# Altium footprint library PL04_22F.PcbLib: 63 footprints (part 1 of 4)
Each footprint in its own frame and in the unit in brackets; x right, y up, seen from the top. Pads: shape width x height; smd on the part's side, far side on the other; paste and mask are expansions set on the pad; w line width, h text height; cw(c..) or ccw(c..) is an arc to the next point about the centre after c.
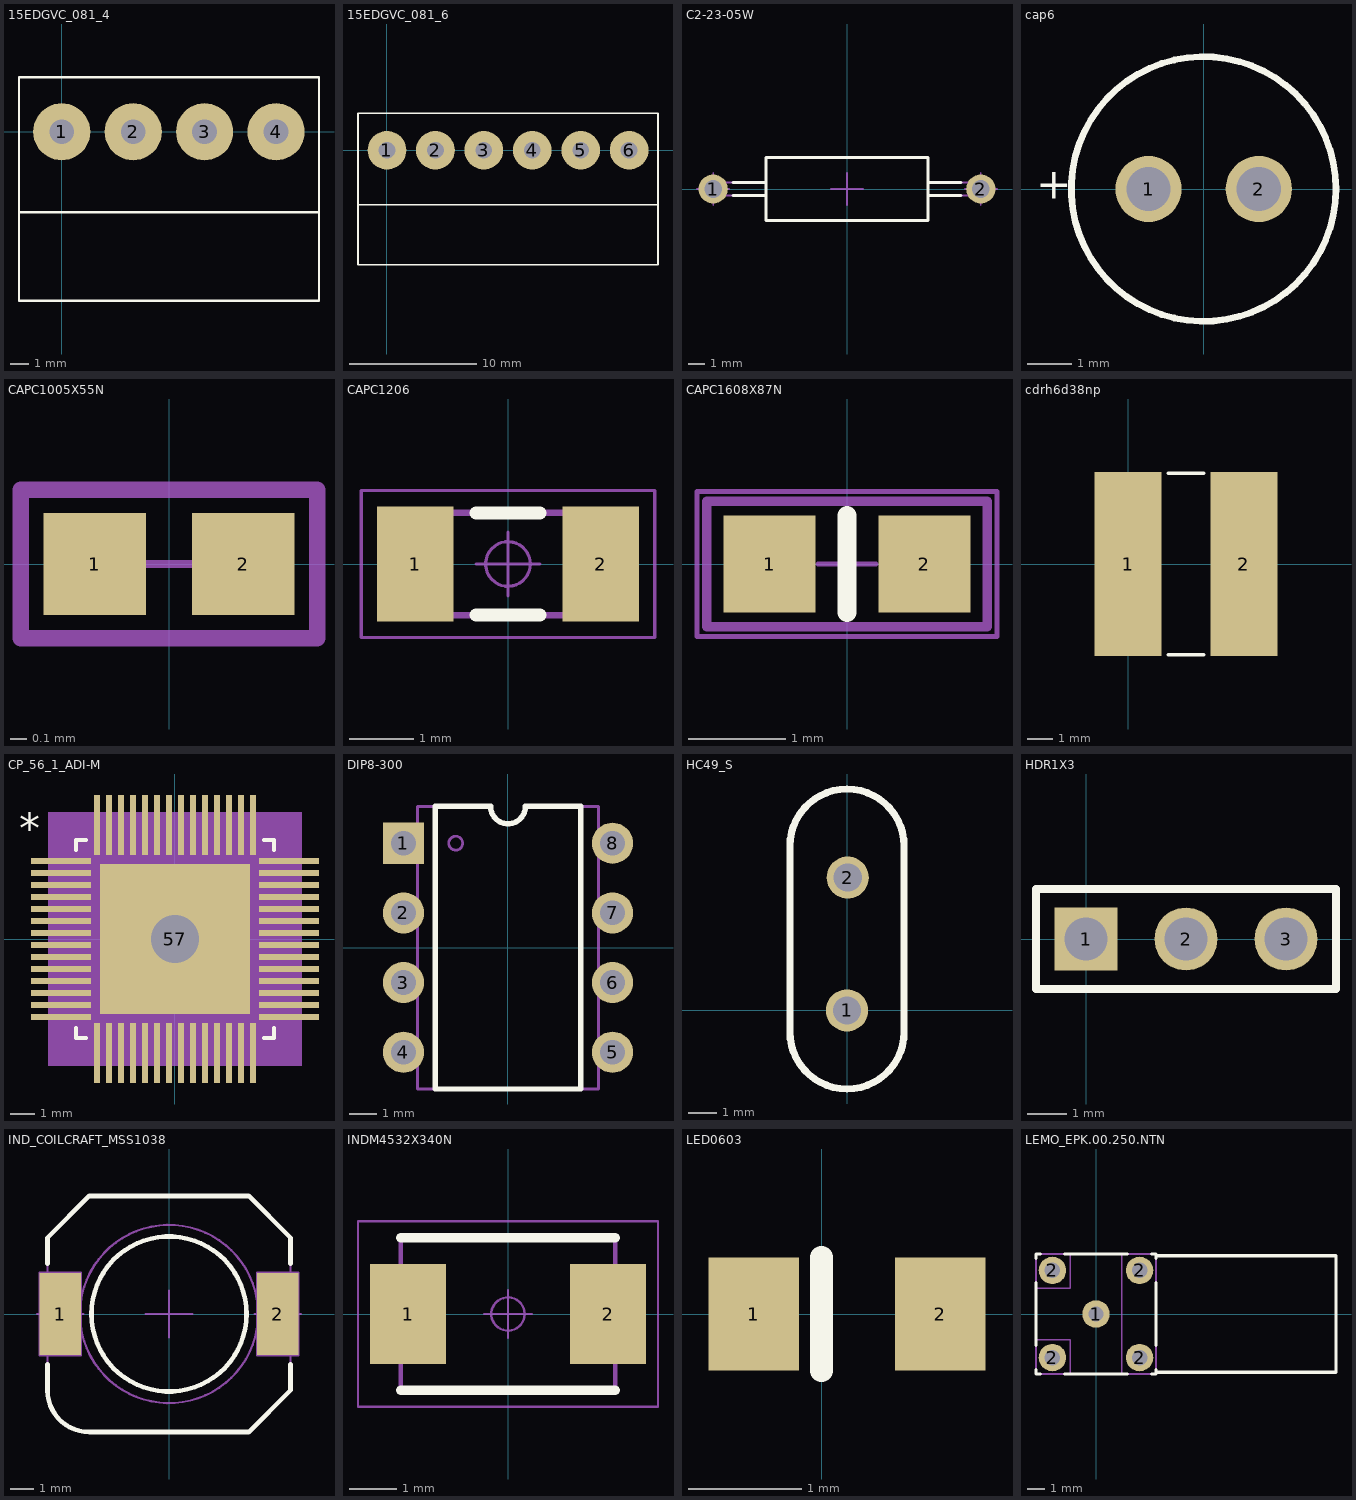
[diagram p0: the footprints below, top view; thin cyan lines are the x and y axes]

## 15EDGVC_081_4 [mil]
pads (4):
  round 120 hole 52: 1(0,0) 2(150,0) 3(300,0) 4(450,0)
Top Overlay:
  lines w5: -89.76,-169.29 540.16,-169.29 ; -89.76,-169.29 -89.76,114.17 -77.95,114.17 540.16,114.17 540.16,-169.29 ; -89.76,-169.29 -89.76,-354.33 540.16,-354.33 540.16,-169.29
3D body "PHOENIX_1803442.stp": height 362.2, standoff -133.86, extent -102.37,-167.33 552.36,118.1

## 15EDGVC_081_6 [mil]
pads (6):
  round 120 hole 52: 1(0,0) 2(150,0) 3(300,0) 4(450,0) 5(600,0) 6(750,0)
Top Overlay:
  lines w5: -89.76,-169.29 -89.76,-354.33 839.37,-354.33 839.37,-169.29 ; -89.76,-169.29 -89.76,114.17 -77.95,114.17 839.37,114.17 839.37,-169.29 ; -89.76,-169.29 839.37,-169.29
3D body "PHOENIX_1803442.stp": height 362.2, standoff -133.86, extent -102.37,-167.33 552.36,118.1
3D body "PHOENIX_1803442.stp": height 362.2, standoff -133.86, extent 197.63,-167.33 852.36,118.1

## C2-23-05W [mm] "Resistor, Axial, Pad spacing 16.51mm - Body Lengh 10mm X Body Diameter 3.9mm"
height 3.9
pads (2):
  round 1.8 hole 1.1: 1(-8.255,0) 2(8.255,0)
Top Overlay:
  lines w0.2: -7.018,-0.4 -5,-0.4 ; -7.018,0.4 -5,0.4 ; 5,-0.4 7.018,-0.4 ; 5,0.4 7.018,0.4 ; -5,-1.95 -5,1.95 ; -5,-1.95 5,-1.95 ; -5,-1.95 5,-1.95 ; -5,-1.95 -5,1.95 ; -5,1.95 5,1.95 ; -5,1.95 5,1.95 ; 5,-1.95 5,1.95 ; 5,-1.95 5,1.95
Mechanical 8:
  lines w0.1: -9.255,0 -8.255,0 ; -8.255,-1 -8.255,0 ; -8.255,1 -8.255,0 ; -7.255,0 -8.255,0 ; -1,0 0,0 ; 0,-1 0,0 ; 0,1 0,0 ; 1,0 0,0 ; 7.255,0 8.255,0 ; 8.255,-1 8.255,0 ; 8.255,1 8.255,0 ; 9.255,0 8.255,0
Mechanical 14:
  lines w0.1: -5,-0.4 -8.255,-0.4 cw(c-8.255,0) -8.255,0.4 -5,0.4 ; 5,-0.4 8.255,-0.4 ccw(c8.255,0) 8.255,0.4 5,0.4 ; -5,-1.95 5,-1.95 5,1.95 -5,1.95 -5,-1.95
3D body "RES1651-1000X390.stp": height 3.9, standoff -3.8, extent -8.645,-1.95 8.645,1.95

## cap6 [mm] "Capacitor, Radial, Pin spacing 2.5mm - Body Diameter 5.0mm X Body Height 11mm"
height 11
pads (2):
  round 1.5 hole 1 mask+0.1: 1(-1.25,0) 2(1.25,0)
Top Overlay:
  circle w0.15: c0,0 r3
  text "+" at -3.8,-0.225 h0.7
3D body "CAPPR250-500X1100.stp": height 10.9, standoff -3.6, extent -2.512,-2.512 2.488,2.488

## CAPC1005X55N [mm] "Chip Capacitor, Body 1.0x0.55mm, IPC Medium Density"
height 0.55
pads (2):
  rect 0.62x0.62 smd: 1(-0.45,0) 2(0.45,0)
Mechanical 14:
  lines w0.1: -0.9,-0.45 -0.9,0.45 0.9,0.45 0.9,-0.45 -0.9,-0.45
Mechanical 15:
  lines w0.05: -0.5,0 0.5,0 ; -0.91,-0.46 -0.91,0.46 0.91,0.46 0.91,-0.46 -0.91,-0.46
3D body "CAPC1005X55N.stp": height 0.55, standoff 0, extent -0.525,-0.275 0.525,0.275

## CAPC1206 [mm] "Chip Capacitor, Body 3.2x1.6mm, IPC Medium Density"
height 0.7
pads (2):
  rect 1.2x1.8 smd: 1(-1.45,0) 2(1.45,0)
Top Overlay:
  lines w0.2: -0.5,-0.8 0.5,-0.8 ; -0.5,0.8 0.5,0.8
Mechanical 14:
  lines w0.1: -1.6,-0.8 -1.6,0.8 1.6,0.8 1.6,-0.8 -1.6,-0.8
Mechanical 15:
  circle w0.05: c0,0 r0.35
  lines w0.05: -0.5,0 0.5,0 ; 0,-0.5 0,0.5 ; -2.3,-1.15 -2.3,1.15 2.3,1.15 2.3,-1.15 -2.3,-1.15
3D body "CAPC3216X70N.stp": height 0.7, standoff 0, extent -1.7,-0.9 1.7,0.9

## CAPC1608X87N [mm] "Chip Capacitor, Body 1.6x0.8mm IPC Medium Density"
height 0.87
pads (2):
  rect 0.95x1 smd: 1(-0.8,0) 2(0.8,0)
Top Overlay:
  lines w0.2: 0,-0.5 0,0.5
Mechanical 14:
  lines w0.1: -1.45,-0.65 -1.45,0.65 1.45,0.65 1.45,-0.65 -1.45,-0.65
Mechanical 15:
  lines w0.05: -0.3,0 0.3,0 ; 0,-0.3 0,0.3 ; -1.55,-0.75 1.55,-0.75 1.55,0.75 -1.55,0.75 -1.55,-0.75
3D body "CAPC1608X87N.stp": height 0.87, standoff 0, extent -0.875,-0.475 0.875,0.475

## cdrh6d38np [mm]
height 1.3
pads (2):
  rect 2.65x7.3 smd: 1(0,0) 2(4.6,0)
Top Overlay:
  lines w0.15: 1.6,-3.6 3,-3.6 ; 1.6,3.6 3,3.6
3D body "INDM_VISHAY_IHLP2525CZ.stp": height 3, standoff 0, extent -1.32,-3.36 5.92,3.36

## CP_56_1_ADI-M [mm] "LFCSP 56 0.5mm pitch 8x8x0.8mm body size"
pads (57):
  rect 2.508x0.255 smd paste+0 mask+0: 1(-4.747,3.25) 2(-4.747,2.75) 3(-4.747,2.25) 4(-4.747,1.75) 5(-4.747,1.25) 6(-4.747,0.75) 7(-4.747,0.25) 8(-4.747,-0.25) 9(-4.747,-0.75) 10(-4.747,-1.25) 11(-4.747,-1.75) 12(-4.747,-2.25) 13(-4.747,-2.75) 14(-4.747,-3.25) 29(4.747,-3.25) 30(4.747,-2.75) 31(4.747,-2.25) 32(4.747,-1.75) 33(4.747,-1.25) 34(4.747,-0.75) 35(4.747,-0.25) 36(4.747,0.25) 37(4.747,0.75) 38(4.747,1.25) 39(4.747,1.75) 40(4.747,2.25) 41(4.747,2.75) 42(4.747,3.25)
  rect 0.255x2.508 smd paste+0 mask+0: 15(-3.25,-4.747) 16(-2.75,-4.747) 17(-2.25,-4.747) 18(-1.75,-4.747) 19(-1.25,-4.747) 20(-0.75,-4.747) 21(-0.25,-4.747) 22(0.25,-4.747) 23(0.75,-4.747) 24(1.25,-4.747) 25(1.75,-4.747) 26(2.25,-4.747) 27(2.75,-4.747) 28(3.25,-4.747) 43(3.25,4.747) 44(2.75,4.747) 45(2.25,4.747) 46(1.75,4.747) 47(1.25,4.747) 48(0.75,4.747) 49(0.25,4.747) 50(-0.25,4.747) 51(-0.75,4.747) 52(-1.25,4.747) 53(-1.75,4.747) 54(-2.25,4.747) 55(-2.75,4.747) 56(-3.25,4.747)
  rect 6.248x6.248 hole 2 paste-3.111 mask+0: 57(0,0)
Top Overlay:
  lines w0.152: -4.127,-3.71 -4.127,-4.127 -3.71,-4.127 ; -4.127,3.71 -4.127,4.127 -3.71,4.127 ; 3.71,-4.127 4.127,-4.127 4.127,-3.71 ; 3.71,4.127 4.127,4.127 4.127,3.71
  text "*" at -6.5,4 h1.27
Top Paste:
  region: -1.662,3.024 -3.024,3.024 -3.024,1.662 -1.662,1.662
  region: -1.662,1.462 -3.024,1.462 -3.024,0.1 -1.662,0.1
  region: -1.662,-0.1 -3.024,-0.1 -3.024,-1.462 -1.662,-1.462
  region: -1.662,-1.662 -3.024,-1.662 -3.024,-3.024 -1.662,-3.024
  region: -0.1,3.024 -1.462,3.024 -1.462,1.662 -0.1,1.662
  region: -0.1,1.462 -1.462,1.462 -1.462,0.1 -0.1,0.1
  region: -0.1,-0.1 -1.462,-0.1 -1.462,-1.462 -0.1,-1.462
  region: -0.1,-1.662 -1.462,-1.662 -1.462,-3.024 -0.1,-3.024
  region: 1.462,3.024 0.1,3.024 0.1,1.662 1.462,1.662
  region: 1.462,1.462 0.1,1.462 0.1,0.1 1.462,0.1
  region: 1.462,-0.1 0.1,-0.1 0.1,-1.462 1.462,-1.462
  region: 1.462,-1.662 0.1,-1.662 0.1,-3.024 1.462,-3.024
  region: 3.024,3.024 1.662,3.024 1.662,1.662 3.024,1.662
  region: 3.024,1.462 1.662,1.462 1.662,0.1 3.024,0.1
  region: 3.024,-0.1 1.662,-0.1 1.662,-1.462 3.024,-1.462
  region: 3.024,-1.662 1.662,-1.662 1.662,-3.024 3.024,-3.024
Mechanical 5:
  region: 5.289,-5.289 -5.289,-5.289 -5.289,5.289 5.289,5.289
Mechanical 13:
  lines w0.025: -4,2.73 -2.73,4 ; -4,-4 4,-4 4,4 -4,4 -4,-4 ; -4,-3.402 -4,-3.098 -4,-3.402 ; -4,-2.902 -4,-2.598 -4,-2.902 ; -4,-2.402 -4,-2.098 -4,-2.402 ; -4,-1.902 -4,-1.598 -4,-1.902 ; -4,-1.402 -4,-1.098 -4,-1.402 ; -4,-0.902 -4,-0.598 -4,-0.902 ; -4,-0.402 -4,-0.098 -4,-0.402 ; -4,0.098 -4,0.402 -4,0.098 ; -4,0.598 -4,0.902 -4,0.598 ; -4,1.098 -4,1.402 -4,1.098 ; -4,1.598 -4,1.902 -4,1.598 ; -4,2.098 -4,2.402 -4,2.098 ; -4,2.598 -4,2.902 -4,2.598 ; -4,3.098 -4,3.402 -4,3.098 ; -3.402,-4 -3.098,-4 -3.402,-4 ; -3.402,4 -3.098,4 -3.402,4 ; -2.902,-4 -2.598,-4 -2.902,-4 ; -2.902,4 -2.598,4 -2.902,4 ; -2.402,-4 -2.098,-4 -2.402,-4 ; -2.402,4 -2.098,4 -2.402,4 ; -1.902,-4 -1.598,-4 -1.902,-4 ; -1.902,4 -1.598,4 -1.902,4 ; -1.402,-4 -1.098,-4 -1.402,-4 ; -1.402,4 -1.098,4 -1.402,4 ; -0.902,-4 -0.598,-4 -0.902,-4 ; -0.902,4 -0.598,4 -0.902,4 ; -0.402,-4 -0.098,-4 -0.402,-4 ; -0.402,4 -0.098,4 -0.402,4 ; 0.098,-4 0.402,-4 0.098,-4 ; 0.098,4 0.402,4 0.098,4 ; 0.598,-4 0.902,-4 0.598,-4 ; 0.598,4 0.902,4 0.598,4 ; 1.098,-4 1.402,-4 1.098,-4 ; 1.098,4 1.402,4 1.098,4 ; 1.598,-4 1.902,-4 1.598,-4 ; 1.598,4 1.902,4 1.598,4 ; 2.098,-4 2.402,-4 2.098,-4 ; 2.098,4 2.402,4 2.098,4 ; 2.598,-4 2.902,-4 2.598,-4 ; 2.598,4 2.902,4 2.598,4 ; 3.098,-4 3.402,-4 3.098,-4 ; 3.098,4 3.402,4 3.098,4 ; 4,-3.402 4,-3.098 4,-3.402 ; 4,-2.902 4,-2.598 4,-2.902 ; 4,-2.402 4,-2.098 4,-2.402 ; 4,-1.902 4,-1.598 4,-1.902 ; 4,-1.402 4,-1.098 4,-1.402 ; 4,-0.902 4,-0.598 4,-0.902 ; 4,-0.402 4,-0.098 4,-0.402 ; 4,0.098 4,0.402 4,0.098 ; 4,0.598 4,0.902 4,0.598 ; 4,1.098 4,1.402 4,1.098 ; 4,1.598 4,1.902 4,1.598 ; 4,2.098 4,2.402 4,2.098 ; 4,2.598 4,2.902 4,2.598 ; 4,3.098 4,3.402 4,3.098
  text "*" at -3.81,2.865 h1.27
Mechanical 15:
  region: -3.885,-4.508 -4.508,-4.508 -4.508,-3.885 -4.908,-3.885 -4.908,3.885 -4.508,3.885 -4.508,4.508 -3.885,4.508 -3.885,4.908 3.885,4.908 3.885,4.508 4.508,4.508 4.508,3.885 4.908,3.885 4.908,-3.885 4.508,-3.885 4.508,-4.508 3.885,-4.508 3.885,-4.908 -3.885,-4.908
  lines w0.152: -4.908,-3.885 -4.508,-3.885 -4.508,-4.508 -3.885,-4.508 -3.885,-4.908 3.885,-4.908 3.885,-4.508 4.508,-4.508 4.508,-3.885 4.908,-3.885 4.908,3.885 4.508,3.885 4.508,4.508 3.885,4.508 3.885,4.908 -3.885,4.908 -3.885,4.508 -4.508,4.508 -4.508,3.885 -4.908,3.885 -4.908,-3.885
3D body "CP_56_1_ADI.step": height 0.99, standoff 0, extent -4,-4 4,4

## DIP8-300 [mm] "DIP 8 Leads, Row Spacing 7.62 mm; Pitch 2.54 mm"
height 5.08
pads (8):
  rect 1.5x1.5 hole 0.9: 1(-3.81,3.81)
  round 1.5 hole 0.9: 2(-3.81,1.27) 3(-3.81,-1.27) 4(-3.81,-3.81) 5(3.81,-3.81) 6(3.81,-1.27) 7(3.81,1.27) 8(3.81,3.81)
Top Overlay:
  lines w0.2: -0.635,5.15 ccw(c0,5.15) 0.635,5.15 ; -0.635,5.15 ccw(c0,5.15) 0.635,5.15 ; -0.635,5.15 -2.65,5.15 -2.65,-5.15 2.65,-5.15 2.65,5.15 0.635,5.15
Mechanical 14:
  circle w0.1: c-1.905,3.81 r0.254
  lines w0.1: -3.3,-5.15 3.3,-5.15 3.3,5.15 0.635,5.15 cw(c0,5.15) -0.635,5.15 -3.3,5.15 -3.3,-5.15
3D body "DIP8-300.stp": height 5.33, standoff -3.3, extent -3.935,-5.08 3.935,5.08

## HC49_S [mm] "HC-49/U-S Leaded Cristal, Body 11.5x4.66mm; Pitch 4.88mm"
height 3.5
pads (2):
  round 1.5 hole 1: 1(0,0) 2(0.025,4.724)
Top Overlay:
  lines w0.254: -2.032,-0.762 ccw(c0,-0.762) 2.032,-0.762 2.032,5.842 ccw(c0,5.842) -2.032,5.842 -2.032,-0.762
3D body "XTAL_CITIZEN_HC-49-U-S.stp": height 3.5, standoff -3.6, extent -2.355,-3.45 2.305,8.05

## HDR1X3 [mm] "Connector; Header; 3 Position"
height 0.65
pads (3):
  rect 1.6x1.6 hole 1.1: 1(0,0)
  round 1.6 hole 1.1: 2(2.54,0) 3(5.08,0)
Top Overlay:
  lines w0.2: -1.27,-1.27 6.35,-1.27 6.35,1.27 -1.27,1.27 -1.27,-1.27
3D body "SAMTEC_MTLW-103-07-L-S-250.stp": height 7.87, standoff -3.05, extent -1.27,-1.269 6.35,1.22

## IND_COILCRAFT_MSS1038 [mm] "SMD Inductor  Body Width 10mm Body Lenght 10.2mm Height 4mm"
height 4
pads (2):
  rect 1.78x3.56 smd: 1(-4.7,0) 2(4.7,0)
Top Overlay:
  circle w0.2: c0,0 r3.35
  lines w0.2: -5.25,-2.18 -5.25,-3.3 ccw(c-3.45,-3.3) -3.45,-5.1 3.45,-5.1 5.25,-3.3 5.25,-2.18 ; -5.25,2.18 -5.25,3.3 -3.45,5.1 3.45,5.1 5.25,3.3 5.25,2.18
Mechanical 8:
  lines w0.1: -5.7,0 -4.7,0 ; -4.7,-1 -4.7,0 ; -4.7,1 -4.7,0 ; -3.7,0 -4.7,0 ; -1,0 0,0 ; 0,-1 0,0 ; 0,1 0,0 ; 1,0 0,0 ; 3.7,0 4.7,0 ; 4.7,-1 4.7,0 ; 4.7,1 4.7,0 ; 5.7,0 4.7,0 ; -5.59,-1.78 -5.59,1.78 -3.81,1.78 -3.81,-1.78 -5.59,-1.78 ; 3.81,-1.78 3.81,1.78 5.59,1.78 5.59,-1.78 3.81,-1.78
Mechanical 14:
  circle w0.1: c0,0 r3.35
  circle w0.1: c0,0 r3.85
  lines w0.1: -5.25,-1.6 -3.85,-1.6 -3.85,1.6 -5.25,1.6 ; -5.25,-1.6 -5.25,-3.3 ccw(c-3.45,-3.3) -3.45,-5.1 3.45,-5.1 5.25,-3.3 5.25,-1.6 ; -5.25,-1.6 -5.25,1.6 ; -5.25,1.6 -5.25,3.3 -3.45,5.1 3.45,5.1 5.25,3.3 5.25,1.6 ; 5.25,-1.6 3.85,-1.6 3.85,1.6 5.25,1.6 ; 5.25,-1.6 5.25,1.6
3D body "IND_COILCRAFT_MSS1038.stp": height 4, standoff 0, extent -5.25,-5.1 5.25,5.1

## INDM4532X340N [mm] "Inductor, Molded Body; 4.5mm L X 3.2mm W, IPC Medium Density"
height 3.4
pads (2):
  rect 1.6x2.1 smd: 1(-2.1,0) 2(2.1,0)
Top Overlay:
  lines w0.2: -2.25,-1.6 2.25,-1.6 ; -2.25,1.6 2.25,1.6
Mechanical 14:
  lines w0.1: -2.25,-1.6 2.25,-1.6 2.25,1.6 -2.25,1.6 -2.25,-1.6
Mechanical 15:
  circle w0.05: c0,0 r0.35
  lines w0.05: -0.5,0 0.5,0 ; 0,-0.5 0,0.5 ; -3.15,-1.95 3.15,-1.95 3.15,1.95 -3.15,1.95 -3.15,-1.95
3D body "INDM4532X340N.stp": height 3.4, standoff 0, extent -2.25,-1.6 2.25,1.6

## LED0603 [mm] "Chip LED 0603, Body 2.25x1mm"
height 0.85
pads (2):
  rect 0.8x1 smd: 1(-0.6,0) 2(1.05,0)
Top Overlay:
  lines w0.2: 0,-0.5 0,-0.25 0,0.25 0,0.5
Mechanical 14:
  lines w0.1: -0.65,-0.4 -0.65,0.4 ; 0.95,-0.4 0.95,0.4
3D body: height 0.25, standoff 0, extent -1,-0.425 -1,-0.425
3D body: height 0.25, standoff 0, extent -1.1,0.4 -1.1,0.4
3D body: height 0.25, standoff 0, extent -1.1,0.4 -1.1,0.4
3D body: height 0.25, standoff 0, extent -1.1,0.4 -1.1,0.4
3D body: height 0.25, standoff 0, extent -1.1,0.4 -1.1,0.4
3D body: height 0.1, standoff 0, extent -0.674,-0.475 -0.3,0.475
3D body: height 0.1, standoff 0, extent 0.85,-0.475 1.224,0.475
3D body: height 0.1, standoff 0, extent -0.3,-0.475 0.85,0.475
3D body: height 0.95, standoff 0.1, extent -0.487,-0.475 1.037,0.475

## LEMO_EPK.00.250.NTN [mm] "50 Ohm size 00 Coaxial Elbow (90°) socket"
height 7
pads (5):
  round 1.6 hole 0.9: 1(0,0) 2(-2.54,-2.54) 2(-2.54,2.54) 2(2.54,-2.54) 2(2.54,2.54)
Top Overlay:
  lines w0.2: -3.5,-3.26 -3.5,-3.5 -3.26,-3.5 ; -3.5,-1.82 -3.5,1.82 ; -3.5,3.26 -3.5,3.5 -3.26,3.5 ; -1.82,-3.5 1.82,-3.5 ; -1.82,3.5 1.82,3.5 ; 3.26,-3.5 3.5,-3.5 3.5,-3.26 ; 3.26,3.5 3.5,3.5 3.5,3.26 ; 3.5,-3.4 14,-3.4 14,3.4 3.5,3.4 ; 3.5,-1.82 3.5,1.82
Mechanical 8:
  lines w0.1: -3.04,-2.54 -2.54,-2.54 ; -3.04,2.54 -2.54,2.54 ; -2.54,-3.04 -2.54,-2.54 ; -2.54,-2.04 -2.54,-2.54 ; -2.54,2.04 -2.54,2.54 ; -2.54,3.04 -2.54,2.54 ; -2.04,-2.54 -2.54,-2.54 ; -2.04,2.54 -2.54,2.54 ; -0.5,0 0,0 ; 0,-0.5 0,0 ; 0,0.5 0,0 ; 0.5,0 0,0 ; 2.04,-2.54 2.54,-2.54 ; 2.04,2.54 2.54,2.54 ; 2.54,-3.04 2.54,-2.54 ; 2.54,-2.04 2.54,-2.54 ; 2.54,2.04 2.54,2.54 ; 2.54,3.04 2.54,2.54 ; 3.04,-2.54 2.54,-2.54 ; 3.04,2.54 2.54,2.54 ; -3.5,-3.5 -1.5,-3.5 -1.5,-1.5 -3.5,-1.5 -3.5,-3.5 ; -3.5,1.5 -1.5,1.5 -1.5,3.5 -3.5,3.5 -3.5,1.5 ; 1.5,-3.5 1.5,3.5 3.5,3.5 3.5,-3.5 1.5,-3.5
Mechanical 14:
  lines w0.1: 1.5,-3.5 3.5,-3.5 ; 3.5,-3.4 14,-3.4 14,3.4 3.5,3.4 ; 3.5,-3.5 3.5,3.5 ; 3.5,-3.5 -3.5,-3.5 -3.5,3.5 3.5,3.5 ; 3.5,-3.5 3.5,3.5
3D body "LEMO_EPK.00.250.NTN.stp": height 7, standoff -3, extent -3.5,-3.5 14,3.5